# EAGLE library part BLE-MODULE2 (library mylib)
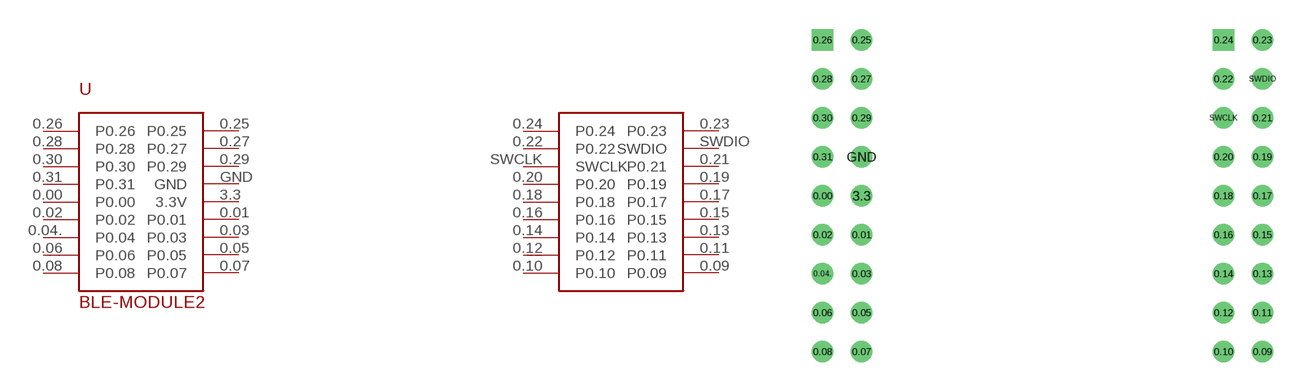
[diagram p17: symbol with the pads of BLE-MODLUE2; footprint BLE-MODLUE2]

Designator prefix -

## BLE-MODULE2  [BLE-MODLUE2]
0.00  P0.00
0.01  P0.01
0.02  P0.02
0.03  P0.03
0.04.  P0.04
0.05  P0.05
0.06  P0.06
0.07  P0.07
0.08  P0.08
0.09  P0.09
0.10  P0.10
0.11  P0.11
0.12  P0.12
0.13  P0.13
0.14  P0.14
0.15  P0.15
0.16  P0.16
0.17  P0.17
0.18  P0.18
0.19  P0.19
0.20  P0.20
0.21  P0.21
0.22  P0.22
0.23  P0.23
0.24  P0.24
0.25  P0.25
0.26  P0.26
0.27  P0.27
0.28  P0.28
0.29  P0.29
0.30  P0.30
0.31  P0.31
3.3  3.3V
GND  GND
SWCLK  SWCLK
SWDIO  SWDIO

## Footprint BLE-MODLUE2 (pad centres in mm)
drill 0.6: 0.00 -2,8; 0.01 0,6; 0.02 -2,6; 0.03 0,4; 0.04. -2,4; 0.05 0,2; 0.06 -2,2; 0.07 0,0; 0.08 -2,0; 0.09 20.549,0; 0.10 18.549,0; 0.11 20.549,2; 0.12 18.549,2; 0.13 20.549,4; 0.14 18.549,4; 0.15 20.549,6; 0.16 18.549,6; 0.17 20.549,8; 0.18 18.549,8; 0.19 20.549,10; 0.20 18.549,10; 0.21 20.549,12; 0.22 18.549,14; 0.23 20.549,16; 0.25 0,16; 0.27 0,14; 0.28 -2,14; 0.29 0,12; 0.30 -2,12; 0.31 -2,10; 3.3 0,8; GND 0,10; SWCLK 18.549,12; SWDIO 20.549,14
drill 0.6 square: 0.24 18.549,16; 0.26 -2,16